# Altium footprint library IC.PcbLib: 83 footprints (part 1 of 6)
Each footprint in its own frame and in the unit in brackets; x right, y up, seen from the top. Pads: shape width x height; smd on the part's side, far side on the other; paste and mask are expansions set on the pad; w line width, h text height; cw(c..) or ccw(c..) is an arc to the next point about the centre after c.
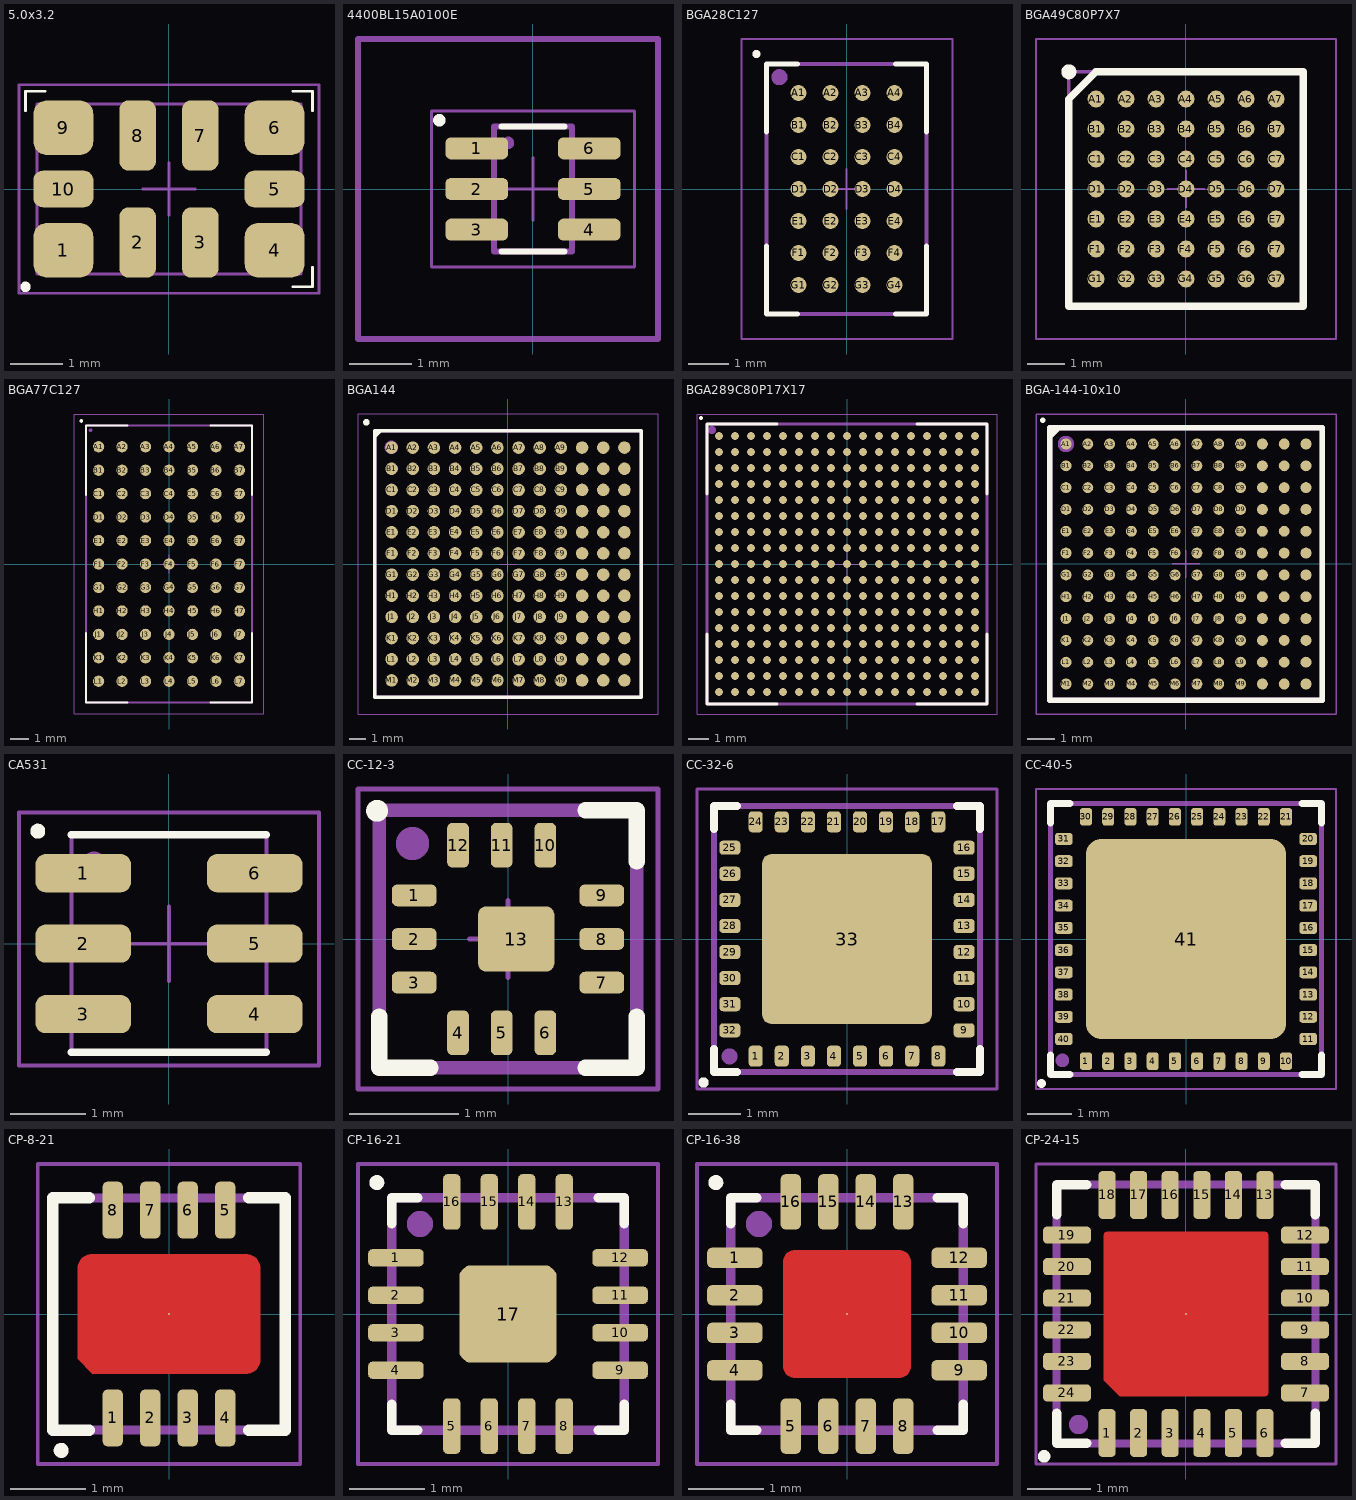
[diagram p0: the footprints below, top view; thin cyan lines are the x and y axes]

## 5.0x3.2 [mm]
pads (10):
  rrect50% 1.15x1.05 smd: 1(-2.025,-1.175) 4(2.025,-1.175) 6(2.025,1.175) 9(-2.025,1.175)
  rrect50% 0.7x1.35 smd: 2(-0.6,-1.025) 3(0.6,-1.025) 7(0.6,1.025) 8(-0.6,1.025)
  rrect50% 1.15x0.7 smd: 5(2.025,0) 10(-2.025,0)
Top Overlay:
  circle w0.1: c-2.75,-1.875 r0.05
  lines w0.05: -2.75,1.5 -2.75,1.875 -2.375,1.875 ; 2.375,-1.875 2.75,-1.875 2.75,-1.5 ; 2.375,1.875 2.75,1.875 2.75,1.5
Top Assembly:
  circle w0.1: c-2.2,-1.375 r0.05
  lines w0.05: -2.53,-1.63 2.53,-1.63 2.53,1.63 -2.53,1.63 -2.53,-1.63
  text ".Designator" at -3.378,-0.339 h1.5
Top Courtyard:
  lines w0.05: -0.5,0 0,0 ; 0,-0.5 0,0 ; 0,0.5 0,0 ; 0.5,0 0,0 ; -2.875,-2 2.875,-2 2.875,2 -2.875,2 -2.875,-2
3D body "SiT5357AI-FQ-33N0-100.000000X.stp": height 1.16, standoff 0, extent -2.53,-1.63 2.53,1.63

## 4400BL15A0100E [mm]
pads (6):
  rrect50% 1x0.35 smd: 1(-0.9,0.65) 2(-0.9,0) 3(-0.9,-0.65) 4(0.9,-0.65) 5(0.9,0) 6(0.9,0.65)
Top Overlay:
  circle w0.1: c-1.5,1.1 r0.05
  lines w0.1: -0.5,-1 0.5,-1 ; -0.5,1 0.5,1
Top Assembly:
  circle w0.1: c-0.4,0.738 r0.05
  lines w0.1: -0.625,-1 0.625,-1 0.625,1 -0.625,1 -0.625,-1
  text ".Designator" at -1.126,-0.113 h0.5
Bottom Assembly:
  lines w0.1: -2.8,-2.4 -2.8,2.4 2,2.4 2,-2.4 -2.8,-2.4
Top Courtyard:
  lines w0.05: -0.5,0 0,0 ; 0,-0.5 0,0 ; 0,0.5 0,0 ; 0.5,0 0,0 ; -1.625,-1.25 1.625,-1.25 1.625,1.25 -1.625,1.25 -1.625,-1.25
3D body "4400BL15A0100E.stp": height 1.15, standoff 0, extent -0.625,-1 0.625,1

## BGA28C127 [mm]
height 5.21
pads (28):
  round 0.4 smd: A1(-1.2,2.4) A2(-0.4,2.4) A3(0.4,2.4) A4(1.2,2.4) B1(-1.2,1.6) B2(-0.4,1.6) B3(0.4,1.6) B4(1.2,1.6) C1(-1.2,0.8) C2(-0.4,0.8) C3(0.4,0.8) C4(1.2,0.8) D1(-1.2,0) D2(-0.4,0) D3(0.4,0) D4(1.2,0) E1(-1.2,-0.8) E2(-0.4,-0.8) E3(0.4,-0.8) E4(1.2,-0.8) F1(-1.2,-1.6) F2(-0.4,-1.6) F3(0.4,-1.6) F4(1.2,-1.6) G1(-1.2,-2.4) G2(-0.4,-2.4) G3(0.4,-2.4) G4(1.2,-2.4)
Top Overlay:
  circle w0.1: c-2.25,3.375 r0.05
  lines w0.127: -2,-1.425 -2,-3.125 -1.225,-3.125 ; -2,1.425 -2,3.125 -1.225,3.125 ; 1.225,-3.125 2,-3.125 2,-1.425 ; 1.225,3.125 2,3.125 2,1.425
Top Assembly:
  circle w0.2: c-1.675,2.795 r0.1
  lines w0.1: 2,-3.125 -2,-3.125 -2,3.125 2,3.125 ; 2,-3.125 2,3.125 ; 2,-3.125 2,3.125
  text ".Designator" at -3.434,-0.345 h1.52
Top Courtyard:
  lines w0.05: -0.5,0 0,0 ; 0,-0.5 0,0 ; 0,0.5 0,0 ; 0.5,0 0,0 ; -2.625,-3.75 2.65,-3.75 2.65,3.75 -2.625,3.75 -2.625,-3.75
3D body "LTM4732EY#PBF.stp": height 2.12, standoff 0, extent -2,-3.125 2,3.125

## BGA49C80P7X7 [mm]
pads (49):
  round 0.45 smd: A1(-2.4,2.4) A2(-1.6,2.4) A3(-0.8,2.4) A4(0,2.4) A5(0.8,2.4) A6(1.6,2.4) A7(2.4,2.4) B1(-2.4,1.6) B2(-1.6,1.6) B3(-0.8,1.6) B4(0,1.6) B5(0.8,1.6) B6(1.6,1.6) B7(2.4,1.6) C1(-2.4,0.8) C2(-1.6,0.8) C3(-0.8,0.8) C4(0,0.8) C5(0.8,0.8) C6(1.6,0.8) C7(2.4,0.8) D1(-2.4,0) D2(-1.6,0) D3(-0.8,0) D4(0,0) D5(0.8,0) D6(1.6,0) D7(2.4,0) E1(-2.4,-0.8) E2(-1.6,-0.8) E3(-0.8,-0.8) E4(0,-0.8) E5(0.8,-0.8) E6(1.6,-0.8) E7(2.4,-0.8) F1(-2.4,-1.6) F2(-1.6,-1.6) F3(-0.8,-1.6) F4(0,-1.6) F5(0.8,-1.6) F6(1.6,-1.6) F7(2.4,-1.6) G1(-2.4,-2.4) G2(-1.6,-2.4) G3(-0.8,-2.4) G4(0,-2.4) G5(0.8,-2.4) G6(1.6,-2.4) G7(2.4,-2.4)
Top Overlay:
  circle w0.2: c-3.125,3.125 r0.1
  lines w0.2: -3.125,-3.125 3.125,-3.125 3.125,3.125 -2.4,3.125 -3.125,2.4 -3.125,-3.125
Top Assembly:
  circle w0.2: c-2.4,2.4 r0.1
  lines w0.1: -3.125,-3.125 -3.125,3.125 3.125,3.125 3.125,-3.125 -3.125,-3.125
  text ".Designator" at -2.252,-0.226 h1
Top Courtyard:
  lines w0.05: -0.5,0 0,0 ; 0,-0.5 0,0 ; 0,0.5 0,0 ; 0.5,0 0,0 ; -4,-4 4,-4 4,4 -4,4 -4,-4
3D body "LTM4707EY#PBF.stp": height 5.39, standoff 0, extent -3.125,-3.125 3.125,3.125

## BGA77C127 [mm]
height 5.21
pads (77):
  round 0.61 smd: A1(-3.81,6.35) A2(-2.54,6.35) A3(-1.27,6.35) A4(0,6.35) A5(1.27,6.35) A6(2.54,6.35) A7(3.81,6.35) B1(-3.81,5.08) B2(-2.54,5.08) B3(-1.27,5.08) B4(0,5.08) B5(1.27,5.08) B6(2.54,5.08) B7(3.81,5.08) C1(-3.81,3.81) C2(-2.54,3.81) C3(-1.27,3.81) C4(0,3.81) C5(1.27,3.81) C6(2.54,3.81) C7(3.81,3.81) D1(-3.81,2.54) D2(-2.54,2.54) D3(-1.27,2.54) D4(0,2.54) D5(1.27,2.54) D6(2.54,2.54) D7(3.81,2.54) E1(-3.81,1.27) E2(-2.54,1.27) E3(-1.27,1.27) E4(0,1.27) E5(1.27,1.27) E6(2.54,1.27) E7(3.81,1.27) F1(-3.81,0) F2(-2.54,0) F3(-1.27,0) F4(0,0) F5(1.27,0) F6(2.54,0) F7(3.81,0) G1(-3.81,-1.27) G2(-2.54,-1.27) G3(-1.27,-1.27) G4(0,-1.27) G5(1.27,-1.27) G6(2.54,-1.27) G7(3.81,-1.27) H1(-3.81,-2.54) H2(-2.54,-2.54) H3(-1.27,-2.54) H4(0,-2.54) H5(1.27,-2.54) H6(2.54,-2.54) H7(3.81,-2.54) J1(-3.81,-3.81) J2(-2.54,-3.81) J3(-1.27,-3.81) J4(0,-3.81) J5(1.27,-3.81) J6(2.54,-3.81) J7(3.81,-3.81) K1(-3.81,-5.08) K2(-2.54,-5.08) K3(-1.27,-5.08) K4(0,-5.08) K5(1.27,-5.08) K6(2.54,-5.08) K7(3.81,-5.08) L1(-3.81,-6.35) L2(-2.54,-6.35) L3(-1.27,-6.35) L4(0,-6.35) L5(1.27,-6.35) L6(2.54,-6.35) L7(3.81,-6.35)
Top Overlay:
  circle w0.1: c-4.75,7.75 r0.05
  lines w0.127: -4.5,-3.75 -4.5,-7.5 -2.25,-7.5 ; -4.5,3.75 -4.5,7.5 -2.25,7.5 ; 2.25,-7.5 4.5,-7.5 4.5,-3.75 ; 2.25,7.5 4.5,7.5 4.5,3.75
Top Assembly:
  circle w0.1: c-4.25,7.25 r0.05
  lines w0.127: -4.5,-7.5 -4.5,7.5 4.5,7.5 4.5,-7.5 -4.5,-7.5
  text ".Designator" at -3.434,-0.345 h1.52
Top Courtyard:
  lines w0.05: -0.5,0 0,0 ; 0,-0.5 0,0 ; 0,0.5 0,0 ; 0.5,0 0,0 ; -5.125,-8.125 5.125,-8.125 5.125,8.125 -5.125,8.125 -5.125,-8.125
3D body "LTM4644IY#PBF.STEP": height 5.21, standoff 0, extent -4.5,-7.5 4.5,7.5

## BGA144 [mm]
pads (144):
  round 0.75 smd: A1(-6.985,6.985) A2(-5.715,6.985) A3(-4.445,6.985) A4(-3.175,6.985) A5(-1.905,6.985) A6(-0.635,6.985) A7(0.635,6.985) A8(1.905,6.985) A9(3.175,6.985) A10(4.445,6.985) A11(5.715,6.985) A12(6.985,6.985) B1(-6.985,5.715) B2(-5.715,5.715) B3(-4.445,5.715) B4(-3.175,5.715) B5(-1.905,5.715) B6(-0.635,5.715) B7(0.635,5.715) B8(1.905,5.715) B9(3.175,5.715) B10(4.445,5.715) B11(5.715,5.715) B12(6.985,5.715) C1(-6.985,4.445) C2(-5.715,4.445) C3(-4.445,4.445) C4(-3.175,4.445) C5(-1.905,4.445) C6(-0.635,4.445) C7(0.635,4.445) C8(1.905,4.445) C9(3.175,4.445) C10(4.445,4.445) C11(5.715,4.445) C12(6.985,4.445) D1(-6.985,3.175) D2(-5.715,3.175) D3(-4.445,3.175) D4(-3.175,3.175) D5(-1.905,3.175) D6(-0.635,3.175) D7(0.635,3.175) D8(1.905,3.175) D9(3.175,3.175) D10(4.445,3.175) D11(5.715,3.175) D12(6.985,3.175) E1(-6.985,1.905) E2(-5.715,1.905) E3(-4.445,1.905) E4(-3.175,1.905) E5(-1.905,1.905) E6(-0.635,1.905) E7(0.635,1.905) E8(1.905,1.905) E9(3.175,1.905) E10(4.445,1.905) E11(5.715,1.905) E12(6.985,1.905) F1(-6.985,0.635) F2(-5.715,0.635) F3(-4.445,0.635) F4(-3.175,0.635) F5(-1.905,0.635) F6(-0.635,0.635) F7(0.635,0.635) F8(1.905,0.635) F9(3.175,0.635) F10(4.445,0.635) F11(5.715,0.635) F12(6.985,0.635) G1(-6.985,-0.635) G2(-5.715,-0.635) G3(-4.445,-0.635) G4(-3.175,-0.635) G5(-1.905,-0.635) G6(-0.635,-0.635) G7(0.635,-0.635) G8(1.905,-0.635) G9(3.175,-0.635) G10(4.445,-0.635) G11(5.715,-0.635) G12(6.985,-0.635) H1(-6.985,-1.905) H2(-5.715,-1.905) H3(-4.445,-1.905) H4(-3.175,-1.905) H5(-1.905,-1.905) H6(-0.635,-1.905) H7(0.635,-1.905) H8(1.905,-1.905) H9(3.175,-1.905) H10(4.445,-1.905) H11(5.715,-1.905) H12(6.985,-1.905) J1(-6.985,-3.175) J2(-5.715,-3.175) J3(-4.445,-3.175) J4(-3.175,-3.175) J5(-1.905,-3.175) J6(-0.635,-3.175) J7(0.635,-3.175) J8(1.905,-3.175) J9(3.175,-3.175) J10(4.445,-3.175) J11(5.715,-3.175) J12(6.985,-3.175) K1(-6.985,-4.445) K2(-5.715,-4.445) K3(-4.445,-4.445) K4(-3.175,-4.445) K5(-1.905,-4.445) K6(-0.635,-4.445) K7(0.635,-4.445) K8(1.905,-4.445) K9(3.175,-4.445) K10(4.445,-4.445) K11(5.715,-4.445) K12(6.985,-4.445) L1(-6.985,-5.715) L2(-5.715,-5.715) L3(-4.445,-5.715) L4(-3.175,-5.715) L5(-1.905,-5.715) L6(-0.635,-5.715) L7(0.635,-5.715) L8(1.905,-5.715) L9(3.175,-5.715) L10(4.445,-5.715) L11(5.715,-5.715) L12(6.985,-5.715) M1(-6.985,-6.985) M2(-5.715,-6.985) M3(-4.445,-6.985) M4(-3.175,-6.985) M5(-1.905,-6.985) M6(-0.635,-6.985) M7(0.635,-6.985) M8(1.905,-6.985) M9(3.175,-6.985) M10(4.445,-6.985) M11(5.715,-6.985) M12(6.985,-6.985)
Top Overlay:
  circle w0.2: c-8.5,8.5 r0.1
  region: -7.649,8 -8,7.649 -8,8
  lines w0.2: -8,7.649 -7.649,8 ; -8,-8 8,-8 8,8 -8,8 -8,-8
Top Assembly:
  circle w0.4: c-7,7 r0.2
  lines w0.2: -8,-8 8,-8 8,8 -8,8 -8,-8
  text ".Designator" at -1.126,-0.113 h0.5
Top Courtyard:
  lines w0.05: -0.5,0 0.5,0 ; 0,-0.5 0,0.5 ; -9,-9 9,-9 9,9 -9,9 -9,-9
3D body "LTM4656IY#PBF.stp": height 7.42, standoff 0, extent -8,-8 8,8

## BGA289C80P17X17 [mm]
pads (289):
  round 0.39 smd: A1(-6.4,6.4) A2(-5.6,6.4) A3(-4.8,6.4) A4(-4,6.4) A5(-3.2,6.4) A6(-2.4,6.4) A7(-1.6,6.4) A8(-0.8,6.4) A9(0,6.4) A10(0.8,6.4) A11(1.6,6.4) A12(2.4,6.4) A13(3.2,6.4) A14(4,6.4) A15(4.8,6.4) A16(5.6,6.4) A17(6.4,6.4) B1(-6.4,5.6) B2(-5.6,5.6) B3(-4.8,5.6) B4(-4,5.6) B5(-3.2,5.6) B6(-2.4,5.6) B7(-1.6,5.6) B8(-0.8,5.6) B9(0,5.6) B10(0.8,5.6) B11(1.6,5.6) B12(2.4,5.6) B13(3.2,5.6) B14(4,5.6) B15(4.8,5.6) B16(5.6,5.6) B17(6.4,5.6) C1(-6.4,4.8) C2(-5.6,4.8) C3(-4.8,4.8) C4(-4,4.8) C5(-3.2,4.8) C6(-2.4,4.8) C7(-1.6,4.8) C8(-0.8,4.8) C9(0,4.8) C10(0.8,4.8) C11(1.6,4.8) C12(2.4,4.8) C13(3.2,4.8) C14(4,4.8) C15(4.8,4.8) C16(5.6,4.8) C17(6.4,4.8) D1(-6.4,4) D2(-5.6,4) D3(-4.8,4) D4(-4,4) D5(-3.2,4) D6(-2.4,4) D7(-1.6,4) D8(-0.8,4) D9(0,4) D10(0.8,4) D11(1.6,4) D12(2.4,4) D13(3.2,4) D14(4,4) D15(4.8,4) D16(5.6,4) D17(6.4,4) E1(-6.4,3.2) E2(-5.6,3.2) E3(-4.8,3.2) E4(-4,3.2) E5(-3.2,3.2) E6(-2.4,3.2) E7(-1.6,3.2) E8(-0.8,3.2) E9(0,3.2) E10(0.8,3.2) E11(1.6,3.2) E12(2.4,3.2) E13(3.2,3.2) E14(4,3.2) E15(4.8,3.2) E16(5.6,3.2) E17(6.4,3.2) F1(-6.4,2.4) F2(-5.6,2.4) F3(-4.8,2.4) F4(-4,2.4) F5(-3.2,2.4) F6(-2.4,2.4) F7(-1.6,2.4) F8(-0.8,2.4) F9(0,2.4) F10(0.8,2.4) F11(1.6,2.4) F12(2.4,2.4) F13(3.2,2.4) F14(4,2.4) F15(4.8,2.4) F16(5.6,2.4) F17(6.4,2.4) G1(-6.4,1.6) G2(-5.6,1.6) G3(-4.8,1.6) G4(-4,1.6) G5(-3.2,1.6) G6(-2.4,1.6) G7(-1.6,1.6) G8(-0.8,1.6) G9(0,1.6) G10(0.8,1.6) G11(1.6,1.6) G12(2.4,1.6) G13(3.2,1.6) G14(4,1.6) G15(4.8,1.6) G16(5.6,1.6) G17(6.4,1.6) H1(-6.4,0.8) H2(-5.6,0.8) H3(-4.8,0.8) H4(-4,0.8) H5(-3.2,0.8) H6(-2.4,0.8) H7(-1.6,0.8) H8(-0.8,0.8) H9(0,0.8) H10(0.8,0.8) H11(1.6,0.8) H12(2.4,0.8) H13(3.2,0.8) H14(4,0.8) H15(4.8,0.8) H16(5.6,0.8) H17(6.4,0.8) J1(-6.4,0) J2(-5.6,0) J3(-4.8,0) J4(-4,0) J5(-3.2,0) J6(-2.4,0) J7(-1.6,0) J8(-0.8,0) J9(0,0) J10(0.8,0) J11(1.6,0) J12(2.4,0) J13(3.2,0) J14(4,0) J15(4.8,0) J16(5.6,0) J17(6.4,0) K1(-6.4,-0.8) K2(-5.6,-0.8) K3(-4.8,-0.8) K4(-4,-0.8) K5(-3.2,-0.8) K6(-2.4,-0.8) K7(-1.6,-0.8) K8(-0.8,-0.8) K9(0,-0.8) K10(0.8,-0.8) K11(1.6,-0.8) K12(2.4,-0.8) K13(3.2,-0.8) K14(4,-0.8) K15(4.8,-0.8) K16(5.6,-0.8) K17(6.4,-0.8) L1(-6.4,-1.6) L2(-5.6,-1.6) L3(-4.8,-1.6) L4(-4,-1.6) L5(-3.2,-1.6) L6(-2.4,-1.6) L7(-1.6,-1.6) L8(-0.8,-1.6) L9(0,-1.6) L10(0.8,-1.6) L11(1.6,-1.6) L12(2.4,-1.6) L13(3.2,-1.6) L14(4,-1.6) L15(4.8,-1.6) L16(5.6,-1.6) L17(6.4,-1.6) M1(-6.4,-2.4) M2(-5.6,-2.4) M3(-4.8,-2.4) M4(-4,-2.4) M5(-3.2,-2.4) M6(-2.4,-2.4) M7(-1.6,-2.4) M8(-0.8,-2.4) M9(0,-2.4) M10(0.8,-2.4) M11(1.6,-2.4) M12(2.4,-2.4) M13(3.2,-2.4) M14(4,-2.4) M15(4.8,-2.4) M16(5.6,-2.4) M17(6.4,-2.4) N1(-6.4,-3.2) N2(-5.6,-3.2) N3(-4.8,-3.2) N4(-4,-3.2) N5(-3.2,-3.2) N6(-2.4,-3.2) N7(-1.6,-3.2) N8(-0.8,-3.2) N9(0,-3.2) N10(0.8,-3.2) N11(1.6,-3.2) N12(2.4,-3.2) N13(3.2,-3.2) N14(4,-3.2) N15(4.8,-3.2) N16(5.6,-3.2) N17(6.4,-3.2) P1(-6.4,-4) P2(-5.6,-4) P3(-4.8,-4) P4(-4,-4) P5(-3.2,-4) P6(-2.4,-4) P7(-1.6,-4) P8(-0.8,-4) P9(0,-4) P10(0.8,-4) P11(1.6,-4) P12(2.4,-4) P13(3.2,-4) P14(4,-4) P15(4.8,-4) P16(5.6,-4) P17(6.4,-4) R1(-6.4,-4.8) R2(-5.6,-4.8) R3(-4.8,-4.8) R4(-4,-4.8) R5(-3.2,-4.8) R6(-2.4,-4.8) R7(-1.6,-4.8) R8(-0.8,-4.8) R9(0,-4.8) R10(0.8,-4.8) R11(1.6,-4.8) R12(2.4,-4.8) R13(3.2,-4.8) R14(4,-4.8) R15(4.8,-4.8) R16(5.6,-4.8) R17(6.4,-4.8) T1(-6.4,-5.6) T2(-5.6,-5.6) T3(-4.8,-5.6) T4(-4,-5.6) T5(-3.2,-5.6) T6(-2.4,-5.6) T7(-1.6,-5.6) T8(-0.8,-5.6) T9(0,-5.6) T10(0.8,-5.6) T11(1.6,-5.6) T12(2.4,-5.6) T13(3.2,-5.6) T14(4,-5.6) T15(4.8,-5.6) T16(5.6,-5.6) T17(6.4,-5.6) U1(-6.4,-6.4) U2(-5.6,-6.4) U3(-4.8,-6.4) U4(-4,-6.4) U5(-3.2,-6.4) U6(-2.4,-6.4) U7(-1.6,-6.4) U8(-0.8,-6.4) U9(0,-6.4) U10(0.8,-6.4) U11(1.6,-6.4) U12(2.4,-6.4) U13(3.2,-6.4) U14(4,-6.4) U15(4.8,-6.4) U16(5.6,-6.4) U17(6.4,-6.4)
Top Overlay:
  circle w0.1: c-7.3,7.3 r0.05
  lines w0.127: -7,-3.5 -7,-7 -3.5,-7 ; -7,3.5 -7,7 -3.5,7 ; 3.5,-7 7,-7 7,-3.5 ; 3.5,7 7,7 7,3.5
Top Assembly:
  circle w0.2: c-6.75,6.7 r0.1
  lines w0.127: -7,-7 -7,7 7,7 7,-7 -7,-7
  text ".Designator" at -3.434,-0.345 h1.52
Top Courtyard:
  lines w0.05: -1,0 0,0 ; 0,-1 0,0 ; 0,1 0,0 ; 1,0 0,0 ; -7.5,-7.5 7.5,-7.5 7.5,7.5 -7.5,7.5 -7.5,-7.5
3D body "ADRV9025BBCZ--3DModel-STEP-510211.STEP": height 1, standoff 0, extent -7,-7 7,7

## BGA-144-10x10 [mm]
height 1.7
pads (144):
  round 0.4 smd: A1(-4.4,4.4) A2(-3.6,4.4) A3(-2.8,4.4) A4(-2,4.4) A5(-1.2,4.4) A6(-0.4,4.4) A7(0.4,4.4) A8(1.2,4.4) A9(2,4.4) A10(2.8,4.4) A11(3.6,4.4) A12(4.4,4.4) B1(-4.4,3.6) B2(-3.6,3.6) B3(-2.8,3.6) B4(-2,3.6) B5(-1.2,3.6) B6(-0.4,3.6) B7(0.4,3.6) B8(1.2,3.6) B9(2,3.6) B10(2.8,3.6) B11(3.6,3.6) B12(4.4,3.6) C1(-4.4,2.8) C2(-3.6,2.8) C3(-2.8,2.8) C4(-2,2.8) C5(-1.2,2.8) C6(-0.4,2.8) C7(0.4,2.8) C8(1.2,2.8) C9(2,2.8) C10(2.8,2.8) C11(3.6,2.8) C12(4.4,2.8) D1(-4.4,2) D2(-3.6,2) D3(-2.8,2) D4(-2,2) D5(-1.2,2) D6(-0.4,2) D7(0.4,2) D8(1.2,2) D9(2,2) D10(2.8,2) D11(3.6,2) D12(4.4,2) E1(-4.4,1.2) E2(-3.6,1.2) E3(-2.8,1.2) E4(-2,1.2) E5(-1.2,1.2) E6(-0.4,1.2) E7(0.4,1.2) E8(1.2,1.2) E9(2,1.2) E10(2.8,1.2) E11(3.6,1.2) E12(4.4,1.2) F1(-4.4,0.4) F2(-3.6,0.4) F3(-2.8,0.4) F4(-2,0.4) F5(-1.2,0.4) F6(-0.4,0.4) F7(0.4,0.4) F8(1.2,0.4) F9(2,0.4) F10(2.8,0.4) F11(3.6,0.4) F12(4.4,0.4) G1(-4.4,-0.4) G2(-3.6,-0.4) G3(-2.8,-0.4) G4(-2,-0.4) G5(-1.2,-0.4) G6(-0.4,-0.4) G7(0.4,-0.4) G8(1.2,-0.4) G9(2,-0.4) G10(2.8,-0.4) G11(3.6,-0.4) G12(4.4,-0.4) H1(-4.4,-1.2) H2(-3.6,-1.2) H3(-2.8,-1.2) H4(-2,-1.2) H5(-1.2,-1.2) H6(-0.4,-1.2) H7(0.4,-1.2) H8(1.2,-1.2) H9(2,-1.2) H10(2.8,-1.2) H11(3.6,-1.2) H12(4.4,-1.2) J1(-4.4,-2) J2(-3.6,-2) J3(-2.8,-2) J4(-2,-2) J5(-1.2,-2) J6(-0.4,-2) J7(0.4,-2) J8(1.2,-2) J9(2,-2) J10(2.8,-2) J11(3.6,-2) J12(4.4,-2) K1(-4.4,-2.8) K2(-3.6,-2.8) K3(-2.8,-2.8) K4(-2,-2.8) K5(-1.2,-2.8) K6(-0.4,-2.8) K7(0.4,-2.8) K8(1.2,-2.8) K9(2,-2.8) K10(2.8,-2.8) K11(3.6,-2.8) K12(4.4,-2.8) L1(-4.4,-3.6) L2(-3.6,-3.6) L3(-2.8,-3.6) L4(-2,-3.6) L5(-1.2,-3.6) L6(-0.4,-3.6) L7(0.4,-3.6) L8(1.2,-3.6) L9(2,-3.6) L10(2.8,-3.6) L11(3.6,-3.6) L12(4.4,-3.6) M1(-4.4,-4.4) M2(-3.6,-4.4) M3(-2.8,-4.4) M4(-2,-4.4) M5(-1.2,-4.4) M6(-0.4,-4.4) M7(0.4,-4.4) M8(1.2,-4.4) M9(2,-4.4) M10(2.8,-4.4) M11(3.6,-4.4) M12(4.4,-4.4)
Top Overlay:
  circle w0.1: c-5.251,5.271 r0.05
  region: -4.649,5 -5,4.649 -5,5
  lines w0.2: -5,4.649 -4.649,5 ; -5,-5 5,-5 5,5 -5,5 -5,-5
Top Assembly:
  circle w0.254: c-4.4,4.4 r0.175
  lines w0.2: -5,-5 5,-5 5,5 -5,5 -5,-5
  text ".Designator" at -1.126,-0.113 h0.5
Top 3D Body:
  lines w0.1: -5,-5 5,-5 5,5 -5,5 -5,-5
Top Courtyard:
  lines w0.05: -0.5,0 0.5,0 ; 0,-0.5 0,0.5 ; -5.5,-5.5 5.5,-5.5 5.5,5.5 -5.5,5.5 -5.5,-5.5
3D body: height 1.7, standoff 0, extent -5,-5 5,5

## CA531 [mil]
pads (6):
  rrect50% 50x20 smd: 1(-45,37) 2(-45,0) 3(-45,-37) 4(45,-37) 5(45,0) 6(45,37)
Top Overlay:
  circle w3.94: c-68.9,59.06 r1.97
  lines w3.94: -51.18,-57.09 51.18,-57.09 ; -51.18,57.09 51.18,57.09
Top Assembly:
  circle w10: c-39.37,42.32 r0.98
  lines w1.97: -51.18,-57.09 51.18,-57.09 51.18,57.09 -51.18,57.09 -51.18,-57.09
  text ".Designator" at -44.34,-4.45 h19.68
Top Courtyard:
  lines w1.97: -19.68,0 0,0 ; 0,-19.68 0,0 ; 0,19.68 0,0 ; 19.68,0 0,0 ; -78.74,-63.98 78.74,-63.98 78.74,68.9 -78.74,68.9 -78.74,-63.98
3D body "D17W+.stp": height 64.17, standoff 0, extent -51.28,-56.99 51.28,56.99

## CC-12-3 [mm]
pads (13):
  rrect50% 0.41x0.2 smd: 1(-0.86,0.4) 2(-0.86,0) 3(-0.86,-0.4) 7(0.86,-0.4) 8(0.86,0) 9(0.86,0.4)
  rrect50% 0.2x0.41 smd: 4(-0.458,-0.86) 5(-0.058,-0.86) 6(0.342,-0.86) 10(0.342,0.86) 11(-0.058,0.86) 12(-0.458,0.86)
  rrect25% 0.7x0.6 smd: 13(0.075,0)
Top Overlay:
  circle w0.1: c-1.2,1.175 r0.05
  lines w0.15: -1.18,-0.71 -1.18,-1.18 -0.71,-1.18 ; 0.71,-1.18 1.18,-1.18 1.18,-0.71 ; 0.71,1.18 1.18,1.18 1.18,0.71
Top Assembly:
  circle w0.254: c-0.875,0.875 r0.025
  lines w0.12: -1.18,-1.18 -1.18,1.18 1.18,1.18 1.18,-1.18 -1.18,-1.18
  text ".Designator" at -1.349,-0.135 h0.6
Top Courtyard:
  lines w0.05: -0.35,0 0.35,0 ; 0,-0.35 0,0.35 ; -1.375,-1.375 -1.375,1.375 1.375,1.375 1.375,-1.375 -1.375,-1.375
3D body "PQFN13P40_225X225X85L27X20T70X80.STEP": height 0.85, standoff 0, extent -1.125,-1.125 1.125,1.125

## CC-32-6 [mm]
pads (33):
  rrect50% 0.27x0.4 smd: 1(-1.75,-2.245) 2(-1.25,-2.245) 3(-0.75,-2.245) 4(-0.25,-2.245) 5(0.25,-2.245) 6(0.75,-2.245) 7(1.25,-2.245) 8(1.75,-2.245) 17(1.75,2.245) 18(1.25,2.245) 19(0.75,2.245) 20(0.25,2.245) 21(-0.25,2.245) 22(-0.75,2.245) 23(-1.25,2.245) 24(-1.75,2.245)
  rrect50% 0.4x0.27 smd: 9(2.245,-1.75) 10(2.245,-1.25) 11(2.245,-0.75) 12(2.245,-0.25) 13(2.245,0.25) 14(2.245,0.75) 15(2.245,1.25) 16(2.245,1.75) 25(-2.245,1.75) 26(-2.245,1.25) 27(-2.245,0.75) 28(-2.245,0.25) 29(-2.245,-0.25) 30(-2.245,-0.75) 31(-2.245,-1.25) 32(-2.245,-1.75)
  rrect10% 3.25x3.25 smd: 33(0,0)
Top Overlay:
  circle w0.1: c-2.75,-2.75 r0.05
  lines w0.15: -2.55,-2.11 -2.55,-2.55 -2.11,-2.55 ; -2.55,2.11 -2.55,2.55 -2.11,2.55 ; 2.11,-2.55 2.55,-2.55 2.55,-2.11 ; 2.11,2.55 2.55,2.55 2.55,2.11
Top Assembly:
  circle w0.254: c0,0 r0.025
  circle w0.254: c-2.25,-2.25 r0.025
  lines w0.12: -2.55,-2.55 -2.55,2.55 2.55,2.55 2.55,-2.55 -2.55,-2.55
  text ".Designator" at -2.704,-0.271 h1.2
Top Courtyard:
  lines w0.05: -0.35,0 0.35,0 ; 0,-0.35 0,0.35 ; -2.875,-2.875 -2.875,2.875 2.875,2.875 2.875,-2.875 -2.875,-2.875
3D body "PQFN33P50_500X500X75L35X27T357.STEP": height 0.75, standoff 0, extent -2.5,-2.5 2.5,2.5

## CC-40-5 [mm]
pads (41):
  rrect50% 0.27x0.4 smd: 1(-2.25,-2.75) 2(-1.75,-2.75) 3(-1.25,-2.75) 4(-0.75,-2.75) 5(-0.25,-2.75) 6(0.25,-2.75) 7(0.75,-2.75) 8(1.25,-2.75) 9(1.75,-2.75) 10(2.25,-2.75) 21(2.25,2.75) 22(1.75,2.75) 23(1.25,2.75) 24(0.75,2.75) 25(0.25,2.75) 26(-0.25,2.75) 27(-0.75,2.75) 28(-1.25,2.75) 29(-1.75,2.75) 30(-2.25,2.75)
  rrect50% 0.4x0.27 smd: 11(2.75,-2.25) 12(2.75,-1.75) 13(2.75,-1.25) 14(2.75,-0.75) 15(2.75,-0.25) 16(2.75,0.25) 17(2.75,0.75) 18(2.75,1.25) 19(2.75,1.75) 20(2.75,2.25) 31(-2.75,2.25) 32(-2.75,1.75) 33(-2.75,1.25) 34(-2.75,0.75) 35(-2.75,0.25) 36(-2.75,-0.25) 37(-2.75,-0.75) 38(-2.75,-1.25) 39(-2.75,-1.75) 40(-2.75,-2.25)
  rrect15% 4.5x4.5 smd: 41(0,0)
Top Overlay:
  circle w0.1: c-3.25,-3.25 r0.05
  lines w0.15: -3.05,-2.61 -3.05,-3.05 -2.61,-3.05 ; -3.05,2.61 -3.05,3.05 -2.61,3.05 ; 2.61,-3.05 3.05,-3.05 3.05,-2.61 ; 2.61,3.05 3.05,3.05 3.05,2.61
Top Assembly:
  circle w0.254: c0,0 r0.025
  circle w0.254: c-2.781,-2.732 r0.025
  lines w0.12: -3.05,-3.05 3.05,-3.05 3.05,3.05 -3.05,3.05 -3.05,-3.05
  text ".Designator" at -2.704,-0.271 h1.2
Top Courtyard:
  lines w0.05: -0.35,0 0.35,0 ; 0,-0.35 0,0.35 ; -3.375,-3.375 3.375,-3.375 3.375,3.375 -3.375,3.375 -3.375,-3.375
3D body "PQFN41P50_600X600X75L35X27T450.STEP": height 0.75, standoff 0, extent -3,-3 3,3

## CP-8-21 [mm]
pads (9):
  rrect50% 0.27x0.76 smd: 1(-0.75,-1.385) 2(-0.25,-1.385) 3(0.25,-1.385) 4(0.75,-1.385) 5(0.75,1.385) 6(0.25,1.385) 7(-0.25,1.385) 8(-0.75,1.385)
  round 0.025 smd: 9(0,0)
Top Layer:
  region: 1.22,0 1.22,-0.6 1.218,-0.631 1.21,-0.662 1.198,-0.691 1.182,-0.718 1.161,-0.741 1.138,-0.762 1.111,-0.778 1.082,-0.79 1.051,-0.797 -1.02,-0.8 -1.22,-0.6 -1.22,0.6 -1.218,0.631 -1.21,0.662 -1.198,0.691 -1.182,0.718 -1.161,0.741 -1.138,0.762 -1.111,0.778 -1.082,0.79 -1.051,0.797 1.02,0.8 1.051,0.797 1.082,0.79 1.111,0.778 1.138,0.762 1.161,0.741 1.182,0.718 1.198,0.691 1.21,0.662 1.218,0.631 1.22,0.6
Top Overlay:
  circle w0.1: c-1.437,-1.819 r0.05
  lines w0.15: -1.065,-1.55 -1.55,-1.55 -1.55,1.55 -1.065,1.55 ; 1.065,-1.55 1.55,-1.55 1.55,1.55 1.065,1.55
Top Solder:
  region: 1.22,0 1.22,-0.6 1.218,-0.631 1.21,-0.662 1.198,-0.691 1.182,-0.718 1.161,-0.741 1.138,-0.762 1.111,-0.778 1.082,-0.79 1.051,-0.797 -1.02,-0.8 -1.22,-0.6 -1.22,0.6 -1.218,0.631 -1.21,0.662 -1.198,0.691 -1.182,0.718 -1.161,0.741 -1.138,0.762 -1.111,0.778 -1.082,0.79 -1.051,0.797 1.02,0.8 1.051,0.797 1.082,0.79 1.111,0.778 1.138,0.762 1.161,0.741 1.182,0.718 1.198,0.691 1.21,0.662 1.218,0.631 1.22,0.6
Top Assembly:
  lines w0.12: -1.55,-1.55 1.55,-1.55 1.55,1.55 -1.55,1.55 -1.55,-1.55
  text ".Designator" at 0.271,-2.704 h1.2
Top Courtyard:
  lines w0.05: -0.35,0 0.35,0 ; 0,-0.35 0,0.35 ; -1.75,-2 -1.75,2 -1,2 1,2 1.75,2 1.75,-2 0.997,-2 -1,-2 -1.75,-2
3D body "SON9P50_300X300X80L40X25T244X160.STEP": height 0.8, standoff 0, extent -1.5,-1.55 1.5,1.55

## CP-16-21 [mm]
pads (17):
  rrect50% 0.74x0.23 smd: 1(-1.495,0.75) 2(-1.495,0.25) 3(-1.495,-0.25) 4(-1.495,-0.75) 9(1.495,-0.75) 10(1.495,-0.25) 11(1.495,0.25) 12(1.495,0.75)
  rrect50% 0.23x0.74 smd: 5(-0.75,-1.495) 6(-0.25,-1.495) 7(0.25,-1.495) 8(0.75,-1.495) 13(0.75,1.495) 14(0.25,1.495) 15(-0.25,1.495) 16(-0.75,1.495)
  rrect25% 1.3x1.3 smd: 17(0,0)
Top Overlay:
  circle w0.1: c-1.75,1.752 r0.05
  lines w0.127: -1.55,-1.205 -1.55,-1.55 -1.205,-1.55 ; -1.55,1.205 -1.55,1.55 -1.205,1.55 ; 1.205,-1.55 1.55,-1.55 1.55,-1.205 ; 1.205,1.55 1.55,1.55 1.55,1.205
Top Assembly:
  circle w0.25: c-1.175,1.2 r0.05
  lines w0.127: -1.55,-1.55 -1.55,1.55 1.55,1.55 1.55,-1.55 -1.55,-1.55
  text ".Designator" at -1.126,-0.113 h0.5
Top Courtyard:
  lines w0.05: -0.5,0 0,0 ; 0,-0.5 0,0 ; 0,0.5 0,0 ; 0.5,0 0,0 ; -2,-2 -2,2 2,2 2,-2 -2,-2
3D body "step_temp.STEP": height 0.95, standoff 0, extent -1.5,-1.5 1.5,1.5

## CP-16-38 [mm]
pads (17):
  rrect50% 0.74x0.27 smd: 1(-1.495,0.75) 2(-1.495,0.25) 3(-1.495,-0.25) 4(-1.495,-0.75) 9(1.495,-0.75) 10(1.495,-0.25) 11(1.495,0.25) 12(1.495,0.75)
  rrect50% 0.27x0.74 smd: 5(-0.75,-1.495) 6(-0.25,-1.495) 7(0.25,-1.495) 8(0.75,-1.495) 13(0.75,1.495) 14(0.25,1.495) 15(-0.25,1.495) 16(-0.75,1.495)
  round 0.025 smd: 17(0,0)
Top Layer:
  region: -0.85,-0.7 -0.85,0.7 -0.85,0.715 -0.844,0.744 -0.833,0.771 -0.817,0.796 -0.796,0.817 -0.771,0.833 -0.744,0.844 -0.715,0.85 -0.7,0.85 0.7,0.85 0.715,0.85 0.744,0.844 0.771,0.833 0.796,0.817 0.817,0.796 0.833,0.771 0.844,0.744 0.85,0.715 0.85,0.7 0.85,-0.7 0.85,-0.715 0.844,-0.744 0.833,-0.771 0.817,-0.796 0.796,-0.817 0.771,-0.833 0.744,-0.844 0.715,-0.85 0.7,-0.85 -0.7,-0.85 -0.715,-0.85 -0.744,-0.844 -0.771,-0.833 -0.796,-0.817 -0.817,-0.796 -0.833,-0.771 -0.844,-0.744 -0.85,-0.715
Top Overlay:
  circle w0.1: c-1.75,1.752 r0.05
  lines w0.127: -1.55,-1.205 -1.55,-1.55 -1.205,-1.55 ; -1.55,1.205 -1.55,1.55 -1.205,1.55 ; 1.205,-1.55 1.55,-1.55 1.55,-1.205 ; 1.205,1.55 1.55,1.55 1.55,1.205
Top Assembly:
  circle w0.25: c-1.175,1.2 r0.05
  lines w0.127: -1.55,-1.55 -1.55,1.55 1.55,1.55 1.55,-1.55 -1.55,-1.55
  text ".Designator" at -1.126,-0.113 h0.5
Top Courtyard:
  lines w0.05: -0.5,0 0,0 ; 0,-0.5 0,0 ; 0,0.5 0,0 ; 0.5,0 0,0 ; -2,-2 -2,2 2,2 2,-2 -2,-2
3D body "step_temp.STEP": height 0.95, standoff 0, extent -1.5,-1.5 1.5,1.5

## CP-24-15 [mm]
pads (25):
  rrect50% 0.27x0.76 smd: 1(-1.25,-1.885) 2(-0.75,-1.885) 3(-0.25,-1.885) 4(0.25,-1.885) 5(0.75,-1.885) 6(1.25,-1.885) 13(1.25,1.885) 14(0.75,1.885) 15(0.25,1.885) 16(-0.25,1.885) 17(-0.75,1.885) 18(-1.25,1.885)
  rrect50% 0.76x0.27 smd: 7(1.885,-1.25) 8(1.885,-0.75) 9(1.885,-0.25) 10(1.885,0.25) 11(1.885,0.75) 12(1.885,1.25) 19(-1.885,1.25) 20(-1.885,0.75) 21(-1.885,0.25) 22(-1.885,-0.25) 23(-1.885,-0.75) 24(-1.885,-1.25)
  round 0.025 smd: 25(0,0)
Top Layer:
  region: 1.3,0 1.3,-1.25 1.299,-1.258 1.298,-1.265 1.295,-1.273 1.291,-1.279 1.285,-1.285 1.279,-1.291 1.273,-1.295 1.265,-1.298 1.258,-1.299 -1.05,-1.3 -1.3,-1.05 -1.3,1.25 -1.299,1.258 -1.298,1.265 -1.295,1.273 -1.291,1.279 -1.285,1.285 -1.279,1.291 -1.273,1.295 -1.265,1.298 -1.258,1.299 1.25,1.3 1.258,1.299 1.265,1.298 1.273,1.295 1.279,1.291 1.285,1.285 1.291,1.279 1.295,1.273 1.298,1.265 1.299,1.258 1.3,1.25
Top Overlay:
  circle w0.1: c-2.247,-2.253 r0.05
  lines w0.15: -2.05,-1.57 -2.05,-2.05 -1.57,-2.05 ; -2.05,1.57 -2.05,2.05 -1.57,2.05 ; 1.57,-2.05 2.05,-2.05 2.05,-1.57 ; 1.57,2.05 2.05,2.05 2.05,1.57
Top Assembly:
  circle w0.254: c-1.7,-1.75 r0.025
  lines w0.12: -2.05,-2.05 2.05,-2.05 2.05,2.05 -2.05,2.05 -2.05,-2.05
  text ".Designator" at -2.704,-0.271 h1.2
Top Courtyard:
  lines w0.05: -0.35,0 0.35,0 ; 0,-0.35 0,0.35 ; -2.375,-2.375 2.375,-2.375 2.375,2.375 -2.375,2.375 -2.375,-2.375
3D body "QFN25P50_400X400X80L40X25T260.STEP": height 0.8, standoff 0, extent -2.05,-2.05 2.05,2.05